# Altium integrated library TXB0102.IntLib: 1 symbol
Pins are listed as number, name and electrical type; pins without a type are passive.

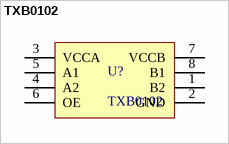
[diagram p0: symbol TXB0102]

## TXB0102
designator U?
Supplier 1: Farnell; Supplier 2: Digi_Key; Supplier 3: Mouser; Supplier Part Number 1: 2295723; Supplier Part Number 3: 595-TXB0102DCUR; Supplier Part Number 2: 296-22862-1-ND
footprint VSSOP8 (TSSOP, 8-Leads, Body 2,00x2,30mm, Pitch 0,50mm, IPC Medium Density)
pins: 1 B2, 2 GND, 3 VCCA, 4 A2, 5 A1, 6 OE, 7 VCCB, 8 B1